# EAGLE library part SIM800C (library SIM800C)
Module: GSM/Bluetooth; GPRS; 2G; 1800MHz, 900MHz; 85.6kbps; SMD Check availability <https://pricing.snapeda.com/parts/SIM800C/Simcom/view-part?ref=eda>
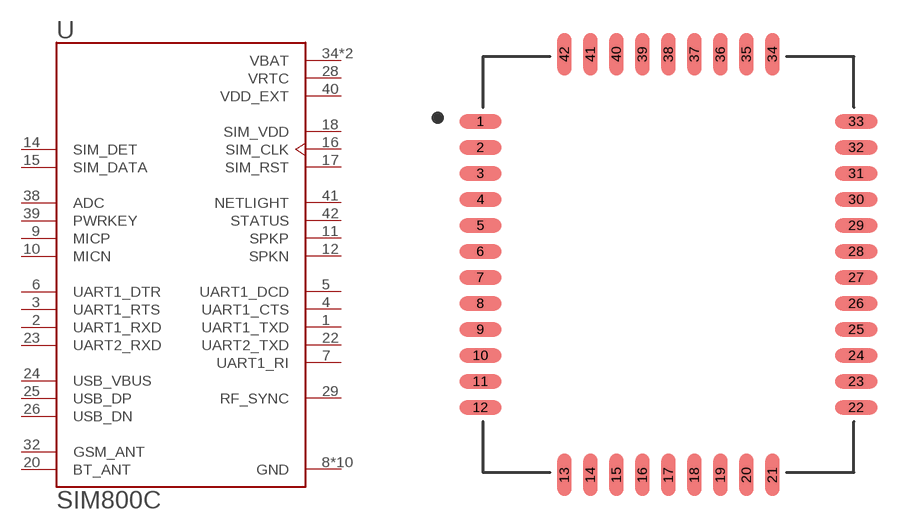
[diagram p0: symbol with the pads of LCC110P1570X1760X250-42N; footprint LCC110P1570X1760X250-42N]

Designator prefix U

## SIM800C (AVAILABILITY: Not in stock; CHECK_PRICES: https://www.snapeda.com/parts/SIM800C/SIMcom+Wireless+solutions+Co.%252CLtd/view-part/?ref=eda; DESCRIPTION: Module: GSM/Bluetooth; GPRS; 2G; 1800MHz, 900MHz; 85.6kbps; SMD; MF: Simcom; MP: SIM800C; PACKAGE: None; PRICE: None; SNAPEDA_LINK: https://www.snapeda.com/parts/SIM800C/SIMcom+Wireless+solutions+Co.%252CLtd/view-part/?ref=snap)  [LCC110P1570X1760X250-42N]
1  UART1_TXD  out
2  UART1_RXD  in
3  UART1_RTS  in
4  UART1_CTS  out
5  UART1_DCD  out
6  UART1_DTR  in
7  UART1_RI  out
8  GND  pwr
9  MICP  in
10  MICN  in
11  SPKP  out
12  SPKN  out
13  GND  pwr
14  SIM_DET  in
15  SIM_DATA
16  SIM_CLK  out
17  SIM_RST  out
18  SIM_VDD  out
19  GND  pwr
20  BT_ANT
21  GND  pwr
22  UART2_TXD  out
23  UART2_RXD  in
24  USB_VBUS  in
25  USB_DP
26  USB_DN
27  GND  pwr
28  VRTC  pwr
29  RF_SYNC  out
30  GND  pwr
31  GND  pwr
32  GSM_ANT
33  GND  pwr
34  VBAT  pwr
35  VBAT  pwr
36  GND  pwr
37  GND  pwr
38  ADC  in
39  PWRKEY  in
40  VDD_EXT  pwr
41  NETLIGHT  out
42  STATUS  out

## Footprint LCC110P1570X1760X250-42N (pad centres in mm)
smd 1.8 x 0.6: 1 -7.95,6.05; 2 -7.95,4.95; 3 -7.95,3.85; 4 -7.95,2.75; 5 -7.95,1.65; 6 -7.95,0.55; 7 -7.95,-0.55; 8 -7.95,-1.65; 9 -7.95,-2.75; 10 -7.95,-3.85; 11 -7.95,-4.95; 12 -7.95,-6.05; 22 7.95,-6.05; 23 7.95,-4.95; 24 7.95,-3.85; 25 7.95,-2.75; 26 7.95,-1.65; 27 7.95,-0.55; 28 7.95,0.55; 29 7.95,1.65; 30 7.95,2.75; 31 7.95,3.85; 32 7.95,4.95; 33 7.95,6.05
smd 0.6 x 1.8: 13 -4.4,-8.9; 14 -3.3,-8.9; 15 -2.2,-8.9; 16 -1.1,-8.9; 17 0,-8.9; 18 1.1,-8.9; 19 2.2,-8.9; 20 3.3,-8.9; 21 4.4,-8.9; 34 4.4,8.9; 35 3.3,8.9; 36 2.2,8.9; 37 1.1,8.9; 38 0,8.9; 39 -1.1,8.9; 40 -2.2,8.9; 41 -3.3,8.9; 42 -4.4,8.9